# EAGLE library part PB6X6 (library MTS-OTR_Custom)
Pushbutton 6mm x 6mm DPDT. 0.5A, 50V should be the same for momentary and latching.
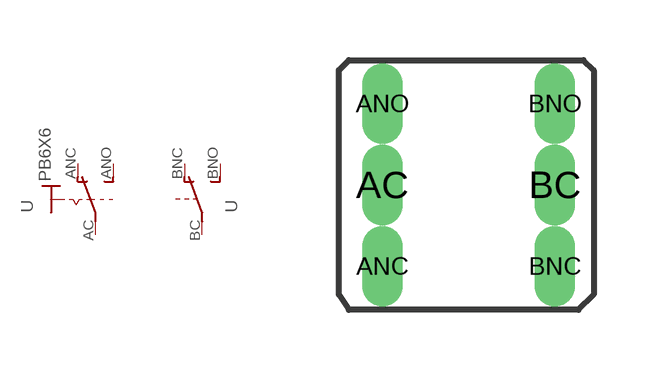
[diagram p7: symbol with the pads of PB6X6; footprint PB6X6]

Designator prefix -; gates G$1=KS-U- G$2=U2

## PB6X6  [PB6X6]
AC  G$1:P  pas
ANC  G$1:O  pas
ANO  G$1:S  pas
BC  G$2:P  pas
BNC  G$2:O  pas
BNO  G$2:S  pas

## Footprint PB6X6 (pad centres in mm)
drill 0.5 pad 0.813 long: AC -2.159,0; ANC -2.159,-2.032; ANO -2.159,2.032; BC 2.159,0; BNC 2.159,-2.032; BNO 2.159,2.032